# EAGLE library part CP2105 (library MainLib)
Datasheet: https://www.silabs.com/documents/public/data-sheets/CP2105.pdf
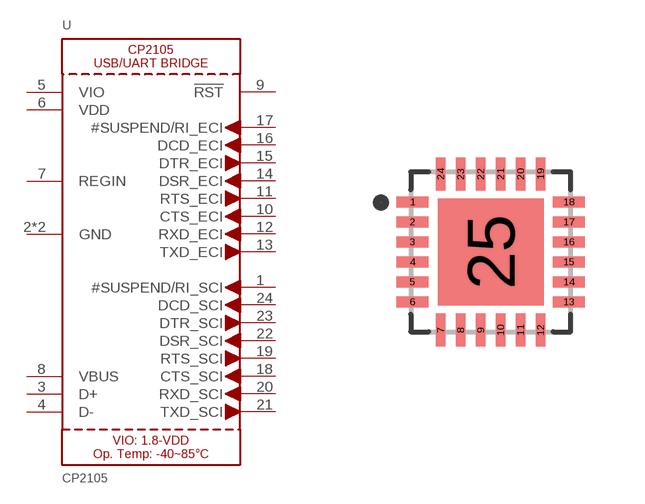
[diagram p1: symbol with the pads of QFN50P400X400X80-25N; footprint QFN50P400X400X80-25N]

Designator prefix -

## CP2105  [QFN50P400X400X80-25N]
1  #SUSPEND/RI_SCI
2  GND
3  D+
4  D-
5  VIO
6  VDD
7  REGIN
8  VBUS
9  !RST
10  CTS_ECI
11  RTS_ECI
12  RXD_ECI
13  TXD_ECI
14  DSR_ECI
15  DTR_ECI
16  DCD_ECI
17  #SUSPEND/RI_ECI
18  CTS_SCI
19  RTS_SCI
20  RXD_SCI
21  TXD_SCI
22  DSR_SCI
23  DTR_SCI
24  DCD_SCI
25  GND

## Footprint QFN50P400X400X80-25N (pad centres in mm)
smd 0.82 x 0.26: 1 -1.955,1.25; 2 -1.955,0.75; 3 -1.955,0.25; 4 -1.955,-0.25; 5 -1.955,-0.75; 6 -1.955,-1.25; 13 1.955,-1.25; 14 1.955,-0.75; 15 1.955,-0.25; 16 1.955,0.25; 17 1.955,0.75; 18 1.955,1.25
smd 0.26 x 0.82: 7 -1.25,-1.955; 8 -0.75,-1.955; 9 -0.25,-1.955; 10 0.25,-1.955; 11 0.75,-1.955; 12 1.25,-1.955; 19 1.25,1.955; 20 0.75,1.955; 21 0.25,1.955; 22 -0.25,1.955; 23 -0.75,1.955; 24 -1.25,1.955
smd 2.65 x 2.68: 25 0,0